# Altium footprint library CM4_Board.PcbLib: 11 footprints
Each footprint in its own frame and in the unit in brackets; x right, y up, seen from the top. Pads: shape width x height; smd on the part's side, far side on the other; paste and mask are expansions set on the pad; w line width, h text height; cw(c..) or ccw(c..) is an arc to the next point about the centre after c.
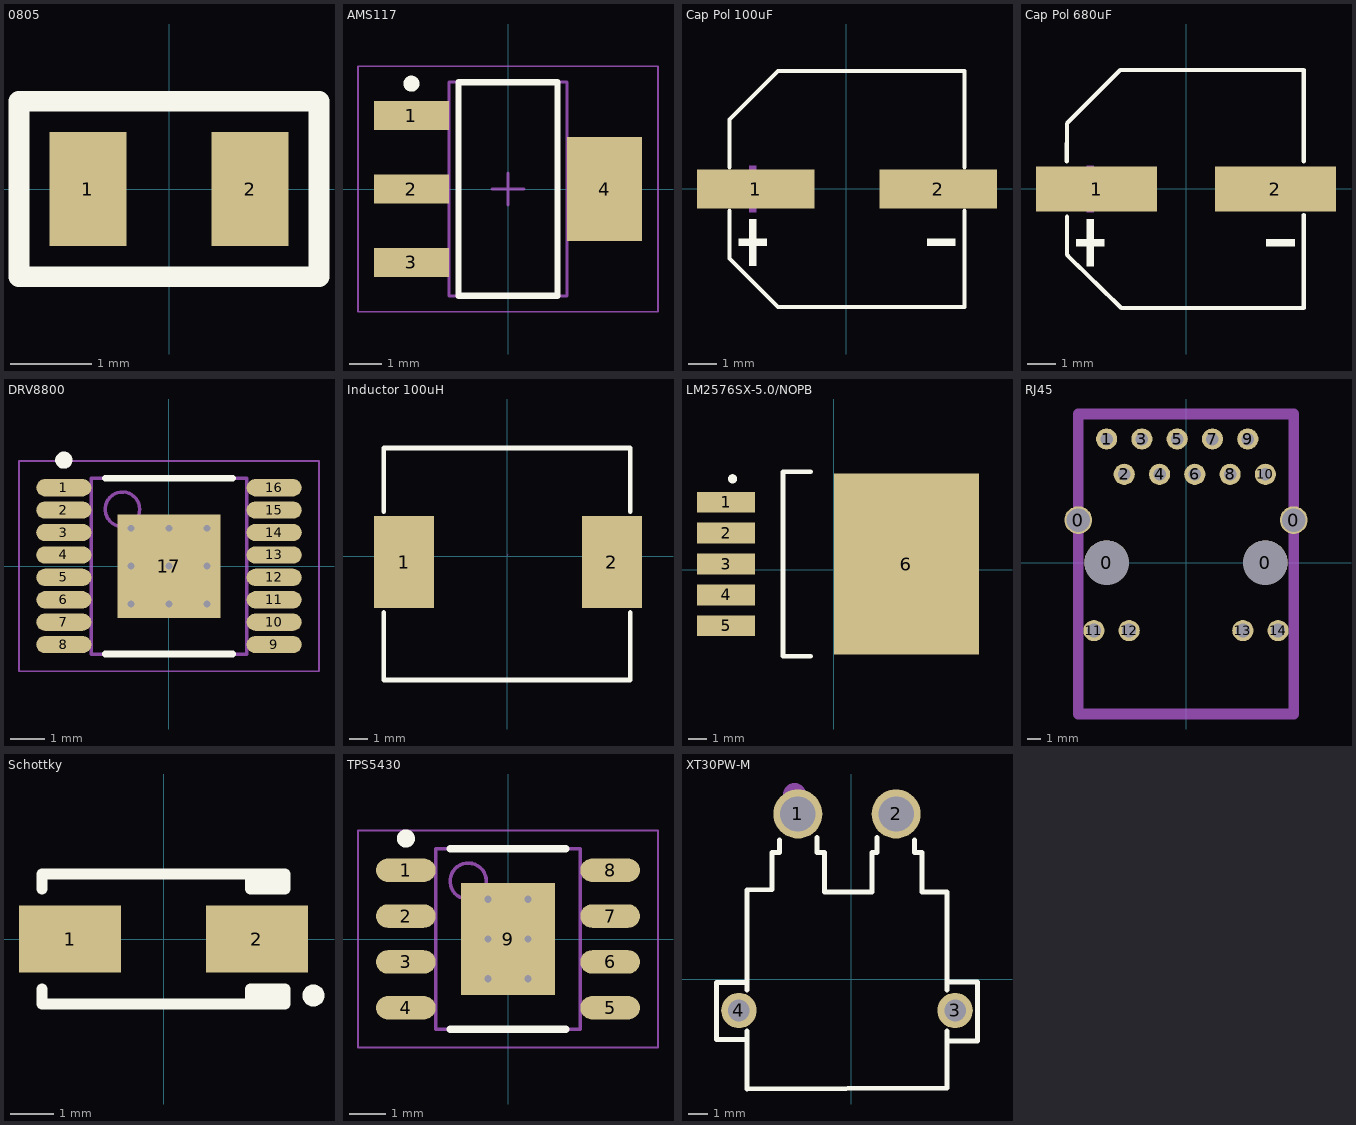
[diagram p0: the footprints below, top view; thin cyan lines are the x and y axes]

## 0805 [mm] "SMD, 0805"
height 0.55
pads (2):
  rect 0.95x1.4 smd: 1(-1,0) 2(1,0)
Top Overlay:
  lines w0.254: -1.85,-1.08 1.85,-1.08 1.85,1.08 -1.85,1.08 -1.85,-1.08
3D body "RESC0805.STEP": height 0.45, standoff 0, extent -1,-0.62 1,0.63

## AMS117 [mm] "SOT223, 4-Leads, Body 6.50x7.00mm (avg), Pitch 2.30mm, IPC Low Density"
height 1.8
pads (4):
  rect 2.35x0.9 smd: 1(-3.025,2.3) 2(-3.025,0) 3(-3.025,-2.3)
  rect 2.35x3.25 smd: 4(3.025,0)
Top Overlay:
  circle w0.25: c-3.025,3.3 r0.125
  lines w0.2: -1.55,-3.35 1.55,-3.35 1.55,3.35 -1.55,3.35 -1.55,-3.35
Mechanical 13:
  lines w0.1: -1.85,-3.35 1.85,-3.35 1.85,3.35 -1.85,3.35 -1.85,-3.35
Mechanical 15:
  lines w0.05: -4.7,-3.85 4.7,-3.85 4.7,3.85 -4.7,3.85 -4.7,-3.85
  lines w0.1: -0.5,0 0.5,0 ; 0,-0.5 0,0.5
3D body: height 1.8, standoff 0.02, extent -1.85,-3.35 1.85,3.35

## Cap Pol 100uF [mm]
pads (2):
  rect 4.2x1.4 smd: 1(-3.234,-0.016) 2(3.3,-0.016)
Top Overlay:
  region: -3.469,-1.095 -3.469,-2.755 -3.22,-2.755 -3.22,-1.095
  region: -3.843,-1.8 -3.843,-2.049 -2.847,-2.049 -2.847,-1.8
  region: 3.909,-1.8 3.909,-2.049 2.913,-2.049 2.913,-1.8
  lines w0.152: -4.168,-0.798 -4.168,-2.506 -2.432,-4.242 4.234,-4.242 4.234,-0.798 ; -4.168,0.767 -4.168,2.474 -2.432,4.211 4.234,4.211 4.234,0.767
Mechanical 15:
  region: -3.469,0.814 -3.469,-0.846 -3.22,-0.846 -3.22,0.814
  region: -3.843,0.109 -3.843,-0.14 -2.847,-0.14 -2.847,0.109
  region: 3.909,0.109 3.909,-0.14 2.913,-0.14 2.913,0.109

## Cap Pol 680uF [mm]
pads (2):
  rect 4.3x1.6 smd: 1(-3.184,-0.016) 2(3.162,-0.016)
Top Overlay:
  region: -3.539,-1.095 -3.539,-2.755 -3.29,-2.755 -3.29,-1.095
  region: -3.912,-1.8 -3.912,-2.049 -2.916,-2.049 -2.916,-1.8
  region: 3.84,-1.8 3.84,-2.049 2.844,-2.049 2.844,-1.8
  lines w0.152: -4.238,-0.996 -4.235,-2.342 ; -4.238,0.969 -4.236,2.298 ; -4.211,-2.372 -2.311,-4.242 4.165,-4.242 ; -4.211,2.342 -2.341,4.211 4.165,4.211 4.165,0.965 ; 4.165,-4.187 4.165,-0.941
Mechanical 15:
  region: -3.539,0.814 -3.539,-0.846 -3.29,-0.846 -3.29,0.814
  region: -3.912,0.109 -3.912,-0.14 -2.916,-0.14 -2.916,0.109
  region: 3.84,0.109 3.84,-0.14 2.844,-0.14 2.844,0.109

## DRV8800 [mm] "SOP, 16-Leads, Body 5.00x4.40mm, Pitch 0.65mm, Thermal Pad 3.00x3.00mm, IPC Low Density"
height 1.7
pads (17):
  oval 1.6x0.5 smd: 1(-3.05,2.275) 2(-3.05,1.625) 3(-3.05,0.975) 4(-3.05,0.325) 5(-3.05,-0.325) 6(-3.05,-0.975) 7(-3.05,-1.625) 8(-3.05,-2.275) 9(3.05,-2.275) 10(3.05,-1.625) 11(3.05,-0.975) 12(3.05,-0.325) 13(3.05,0.325) 14(3.05,0.975) 15(3.05,1.625) 16(3.05,2.275)
  rect 3x3 smd: 17(0,0)
via -1.1,1.1 diameter 0.5 hole 0.2
via 0,1.1 diameter 0.5 hole 0.2
via 1.1,1.1 diameter 0.5 hole 0.2
via -1.1,0 diameter 0.5 hole 0.2
via 0,0 diameter 0.5 hole 0.2
via 1.1,0 diameter 0.5 hole 0.2
via -1.1,-1.1 diameter 0.5 hole 0.2
via 0,-1.1 diameter 0.5 hole 0.2
via 1.1,-1.1 diameter 0.5 hole 0.2
Top Overlay:
  circle w0.25: c-3.05,3.075 r0.125
  lines w0.2: -1.85,-2.55 1.85,-2.55 ; -1.85,2.55 1.85,2.55
Mechanical 13:
  circle w0.1: c-1.35,1.65 r0.5
  lines w0.1: -2.25,-2.55 -2.25,2.55 2.25,2.55 2.25,-2.55 -2.25,-2.55
Mechanical 15:
  lines w0.05: -4.35,-3.05 -4.35,3.05 4.35,3.05 4.35,-3.05 -4.35,-3.05
  lines w0.1: -0.5,0 0.5,0 ; 0,-0.5 0,0.5
3D body: height 1.7, standoff 0.05, extent -2.25,-2.55 2.25,2.55

## Inductor 100uH [mm]
pads (2):
  rect 3.25x5 smd: 1(-5.614,-0.331) 2(5.686,-0.331)
Top Overlay:
  lines w0.254: -6.714,-3.062 -6.714,-6.731 6.686,-6.731 6.686,-3.062 ; -6.714,2.4 -6.714,5.869 6.686,5.869 6.686,2.4
Mechanical 15:
  lines w0.003: 0.01,0.045 0.061,0.096

## LM2576SX-5.0/NOPB [mm]
height 3
pads (6):
  rect 3.2x1.15 smd: 1(-5.951,3.721) 2(-5.951,2.019) 3(-5.951,0.317) 4(-5.951,-1.385) 5(-5.951,-3.086)
  rect 8x10 smd: 6(4,0.317)
Top Overlay:
  circle w0.254: c-5.588,5.016 r0.127
  lines w0.254: -1.27,-4.763 -2.807,-4.763 -2.807,5.397 -1.27,5.397
Mechanical 15:
  circle w0.254: c-6.962,3.705 r0.127

## RJ45 [mm] "48F-01GY2DPL2NL"
pads (18):
  round 2 hole 1.7: 0(-7.75,3.05) 0(7.75,3.05)
  round 3.2 hole 3.2: 0(-5.715,0) 0(5.715,0)
  round 1.524 hole 0.9: 1(-5.715,8.89) 2(-4.445,6.35) 3(-3.175,8.89) 4(-1.905,6.35) 5(-0.635,8.89) 6(0.635,6.35) 7(1.905,8.89) 8(3.175,6.35) 9(4.445,8.89) 10(5.715,6.35)
  round 1.524 hole 1: 11(-6.63,-4.9) 12(-4.09,-4.9) 13(4.09,-4.9) 14(6.63,-4.9)
Mechanical 1:
  lines w0.762: -7.75,-10.9 7.75,-10.9 7.75,0 7.75,10.69 0,10.69 -7.75,10.69 -7.75,0 -7.75,-10.9
3D body: height 13.84, standoff 0, extent -7.75,-10.9 7.75,10.69

## Schottky [mm] "DO-214AC"
height 2.03
pads (2):
  rect 2.35x1.55 smd: 1(-2.15,0) 2(2.15,0)
Top Overlay:
  circle w0.254: c3.45,-1.3 r0.127
  lines w0.254: -2.8,-1.15 -2.8,-1.5 2.8,-1.5 2.8,-1.15 2,-1.15 2,-1.5 ; -2.8,1.15 -2.8,1.5 2.8,1.5 2.8,1.15 2,1.15 2,1.5 ; 2.2,-1.5 2.2,-1.15 ; 2.2,1.15 2.2,1.5 ; 2.4,-1.5 2.4,-1.15 ; 2.4,1.15 2.4,1.5 ; 2.6,-1.5 2.6,-1.15 ; 2.6,1.15 2.6,1.5
3D body "SMA.STEP": height 2.64, standoff 0.02, extent -2.6,-1.3 2.6,1.3

## TPS5430 [mm] "SOIC, 8-Leads, Body 4.90x3.90mm, Pitch 1.27mm, Thermal Pad 3.10x2.60mm, IPC Low Density"
height 1.7
pads (9):
  oval 1.65x0.65 smd: 1(-2.825,1.905) 2(-2.825,0.635) 3(-2.825,-0.635) 4(-2.825,-1.905) 5(2.825,-1.905) 6(2.825,-0.635) 7(2.825,0.635) 8(2.825,1.905)
  rect 2.6x3.1 smd: 9(0,0)
via 0.55,-1.1 diameter 0.5 hole 0.2
via -0.55,-1.1 diameter 0.5 hole 0.2
via 0.55,0 diameter 0.5 hole 0.2
via -0.55,0 diameter 0.5 hole 0.2
via 0.55,1.1 diameter 0.5 hole 0.2
via -0.55,1.1 diameter 0.5 hole 0.2
Top Overlay:
  circle w0.25: c-2.825,2.78 r0.125
  lines w0.2: -1.6,-2.5 1.6,-2.5 ; -1.6,2.5 1.6,2.5
Mechanical 13:
  circle w0.1: c-1.1,1.6 r0.5
  lines w0.1: -2,-2.5 2,-2.5 2,2.5 -2,2.5 -2,-2.5
Mechanical 15:
  lines w0.05: -4.15,-3 4.15,-3 4.15,3 -4.15,3 -4.15,-3
  lines w0.1: -0.5,0 0.5,0 ; 0,-0.5 0,0.5
3D body: height 1.7, standoff 0.1, extent -2,-2.5 2,2.5

## XT30PW-M [mm]
height 5
pads (4):
  round 2.5 hole 1.8: 1(-2.708,8.407) 2(2.292,8.407)
  round 1.8 hole 1.1: 3(5.292,-1.593) 4(-5.708,-1.593)
Top Overlay:
  lines w0.254: -5.288,-3.073 -6.858,-3.073 -6.858,-0.178 -5.288,-0.178 ; -5.288,-2.643 -5.288,-5.588 4.872,-5.543 4.872,-2.643 ; -5.288,-0.543 -5.288,3.454 -5.288,4.55 -4.018,4.55 -4.018,6.455 -3.637,6.455 -3.637,7.09 ; -1.732,7.217 -1.732,6.455 -1.351,6.455 -1.351,4.423 1.062,4.423 1.062,6.455 1.316,6.455 1.316,7.217 ; 3.221,7.09 3.221,6.455 3.602,6.455 3.602,4.423 4.872,4.423 4.872,3.454 4.872,-0.543 ; 4.872,-3.143 6.442,-3.143 6.442,-0.152 4.872,-0.152
Mechanical 15:
  circle w0.6: c-2.875,9.376 r0.3